# Altium footprint library Switcher.PcbLib: 128 footprints (part 1 of 9)
Each footprint in its own frame and in the unit in brackets; x right, y up, seen from the top. Pads: shape width x height; smd on the part's side, far side on the other; paste and mask are expansions set on the pad; w line width, h text height; cw(c..) or ccw(c..) is an arc to the next point about the centre after c.
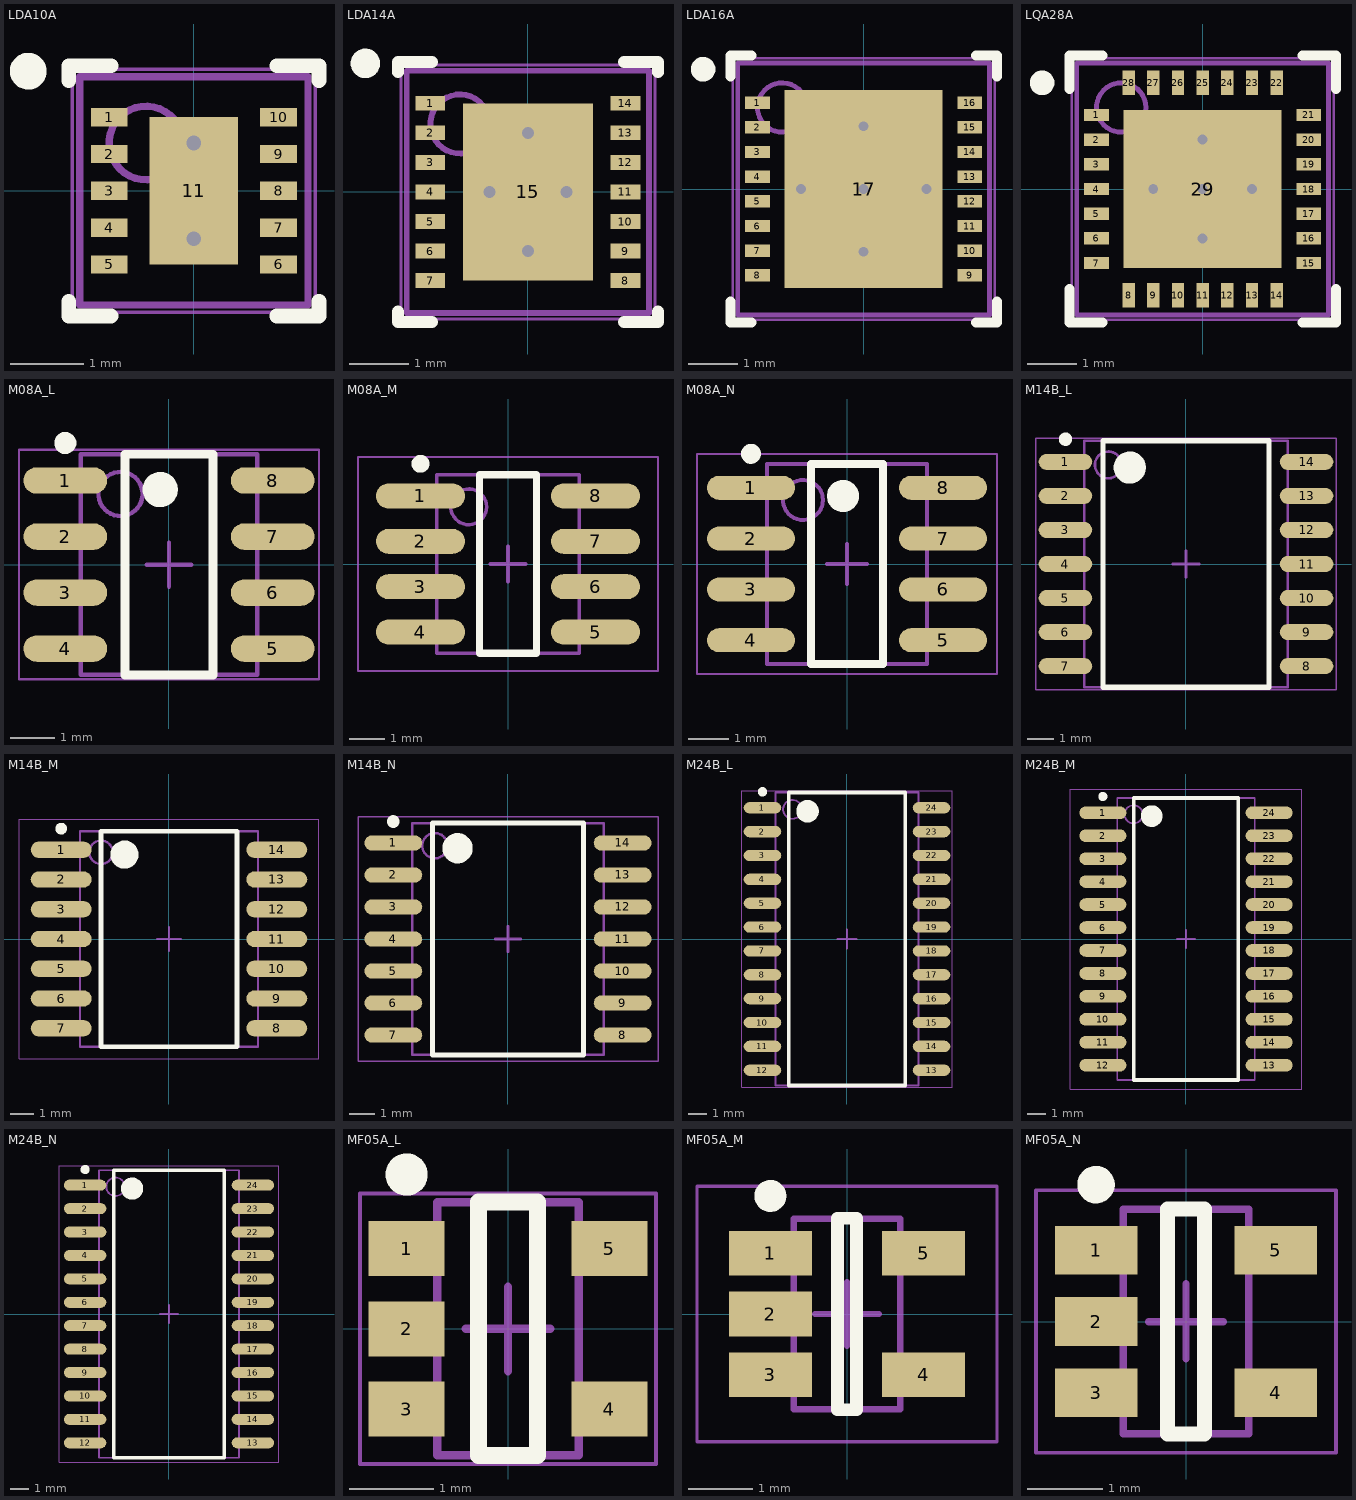
[diagram p0: the footprints below, top view; thin cyan lines are the x and y axes]

## LDA10A [mm] "PSON, 10-Leads, Body 3x3mm, Pitch 0.5mm, NSC Recommended"
height 0.8
pads (11):
  rect 0.5x0.25 smd paste-0.125 mask+0.051: 1(-1.15,1) 2(-1.15,0.5) 3(-1.15,0) 4(-1.15,-0.5) 5(-1.15,-1) 6(1.15,-1) 7(1.15,-0.5) 8(1.15,0) 9(1.15,0.5) 10(1.15,1)
  rect 1.2x2 smd paste-0.6 mask+0.051: 11(0,0)
via 0,0.65 diameter 0.5 hole 0.2
via 0,-0.65 diameter 0.5 hole 0.2
Top Overlay:
  circle w0.25: c-2.25,1.625 r0.125
  lines w0.2: -1.7,-1.5 -1.7,-1.7 -1.125,-1.7 ; -1.7,1.5 -1.7,1.7 -1.125,1.7 ; 1.125,-1.7 1.7,-1.7 1.7,-1.5 ; 1.125,1.7 1.7,1.7 1.7,1.5
Top Paste:
  rectangle: -0.57,-0.95 0.57,0.95
  rectangle: -1.5,0.875 -1,1.125
  rectangle: -1.5,0.375 -1,0.625
  rectangle: -1.5,-0.125 -1,0.125
  rectangle: -1.5,-0.625 -1,-0.375
  rectangle: -1.5,-1.125 -1,-0.875
  region: 1.5,1.125 1,1.125 1,0.875 1.5,0.875
  region: 1.5,0.625 1,0.625 1,0.375 1.5,0.375
  region: 1.5,0.125 1,0.125 1,-0.125 1.5,-0.125
  region: 1.5,-0.375 1,-0.375 1,-0.625 1.5,-0.625
  region: 1.5,-0.875 1,-0.875 1,-1.125 1.5,-1.125
Mechanical 13:
  circle w0.1: c-0.65,0.65 r0.5
  lines w0.1: -1.55,-1.55 -1.55,1.55 1.55,1.55 1.55,-1.55 -1.55,-1.55
Mechanical 15:
  lines w0.05: -1.65,-1.65 -1.65,1.65 1.65,1.65 1.65,-1.65 -1.65,-1.65
  lines w0.1: -0.5,0 0.5,0 ; 0,-0.5 0,0.5
3D body: height 0.8, standoff 0, extent -1.55,-1.55 1.55,1.55

## LDA14A [mm] "PSON, 14-Leads, Body 4x4mm, Pitch 0.5mm, NSC Recommended"
height 0.8
pads (15):
  rect 0.5x0.25 smd paste-0.125 mask+0.051: 1(-1.65,1.5) 2(-1.65,1) 3(-1.65,0.5) 4(-1.65,0) 5(-1.65,-0.5) 6(-1.65,-1) 7(-1.65,-1.5) 8(1.65,-1.5) 9(1.65,-1) 10(1.65,-0.5) 11(1.65,0) 12(1.65,0.5) 13(1.65,1) 14(1.65,1.5)
  rect 2.2x3 smd paste-1.3 mask+0.051: 15(0,0)
via 0.65,0 diameter 0.5 hole 0.2
via -0.65,0 diameter 0.5 hole 0.2
via 0,-1 diameter 0.5 hole 0.2
via 0,1 diameter 0.5 hole 0.2
Top Overlay:
  circle w0.25: c-2.75,2.175 r0.125
  lines w0.2: -2.2,-2.025 -2.2,-2.2 -1.625,-2.2 ; -2.2,2.025 -2.2,2.2 -1.625,2.2 ; 1.625,-2.2 2.2,-2.2 2.2,-2.025 ; 1.625,2.2 2.2,2.2 2.2,2.025
Top Paste:
  region: -1.5,1.625 -2,1.625 -2,1.375 -1.5,1.375
  region: -1.5,1.125 -2,1.125 -2,0.875 -1.5,0.875
  region: -1.5,0.625 -2,0.625 -2,0.375 -1.5,0.375
  region: -1.5,0.125 -2,0.125 -2,-0.125 -1.5,-0.125
  region: -1.5,-0.375 -2,-0.375 -2,-0.625 -1.5,-0.625
  region: -1.5,-0.875 -2,-0.875 -2,-1.125 -1.5,-1.125
  region: -1.5,-1.375 -2,-1.375 -2,-1.625 -1.5,-1.625
  rectangle: 1.5,-1.625 2,-1.375
  rectangle: 1.5,-1.125 2,-0.875
  rectangle: 1.5,-0.625 2,-0.375
  rectangle: 1.5,-0.125 2,0.125
  rectangle: 1.5,0.375 2,0.625
  rectangle: 1.5,0.875 2,1.125
  rectangle: 1.5,1.375 2,1.625
  region: 1,1.4 0.1,1.4 0.1,0.1 1,0.1
  region: 1,-0.1 0.1,-0.1 0.1,-1.4 1,-1.4
  rectangle: -1,-1.4 -0.1,-0.1
  rectangle: -1,0.1 -0.1,1.4
Mechanical 13:
  circle w0.1: c-1.15,1.15 r0.5
  lines w0.1: -2.05,-2.05 -2.05,2.05 2.05,2.05 2.05,-2.05 -2.05,-2.05
Mechanical 15:
  lines w0.05: -2.15,-2.15 2.15,-2.15 2.15,2.15 -2.15,2.15 -2.15,-2.15
  lines w0.1: -0.5,0 0.5,0 ; 0,-0.5 0,0.5
3D body: height 0.8, standoff 0, extent -2.049,-2.049 2.049,2.049

## LDA16A [mm] "PSON, 16-Leads, Body 5x5 mm, Pitch 0.5mm, NSC Recommended"
height 0.8
pads (17):
  rect 0.5x0.25 smd paste-0.125 mask+0.051: 1(-2.15,1.75) 2(-2.15,1.25) 3(-2.15,0.75) 4(-2.15,0.25) 5(-2.15,-0.25) 6(-2.15,-0.75) 7(-2.15,-1.25) 8(-2.15,-1.75) 9(2.15,-1.75) 10(2.15,-1.25) 11(2.15,-0.75) 12(2.15,-0.25) 13(2.15,0.25) 14(2.15,0.75) 15(2.15,1.25) 16(2.15,1.75)
  rect 3.2x4 smd paste-1.6 mask+0.051: 17(0,0)
via -1.27,0 diameter 0.5 hole 0.2
via 0,-1.27 diameter 0.5 hole 0.2
via 0,0 diameter 0.5 hole 0.2
via 0,1.27 diameter 0.5 hole 0.2
via 1.27,0 diameter 0.5 hole 0.2
Top Overlay:
  circle w0.25: c-3.25,2.425 r0.125
  lines w0.2: -2.7,-2.275 -2.7,-2.7 -2.275,-2.7 ; -2.7,2.275 -2.7,2.7 -2.275,2.7 ; 2.275,-2.7 2.7,-2.7 2.7,-2.275 ; 2.275,2.7 2.7,2.7 2.7,2.275
Top Paste:
  rectangle: 0.1,0.1 1.5,2
  region: -0.1,2 -1.5,2 -1.5,0.1 -0.1,0.1
  region: -0.1,-0.1 -1.5,-0.1 -1.5,-2 -0.1,-2
  rectangle: 0.1,-2 1.5,-0.1
  rectangle: -2.5,1.625 -2,1.875
  rectangle: -2.5,1.125 -2,1.375
  rectangle: -2.5,0.625 -2,0.875
  rectangle: -2.5,0.125 -2,0.375
  rectangle: -2.5,-0.875 -2,-0.625
  rectangle: -2.5,-1.375 -2,-1.125
  rectangle: -2.5,-1.875 -2,-1.625
  rectangle: -2.5,-0.375 -2,-0.125
  region: 2.5,-0.125 2,-0.125 2,-0.375 2.5,-0.375
  region: 2.5,-1.625 2,-1.625 2,-1.875 2.5,-1.875
  region: 2.5,-1.125 2,-1.125 2,-1.375 2.5,-1.375
  region: 2.5,-0.625 2,-0.625 2,-0.875 2.5,-0.875
  region: 2.5,0.375 2,0.375 2,0.125 2.5,0.125
  region: 2.5,0.875 2,0.875 2,0.625 2.5,0.625
  region: 2.5,1.375 2,1.375 2,1.125 2.5,1.125
  region: 2.5,1.875 2,1.875 2,1.625 2.5,1.625
Mechanical 13:
  circle w0.1: c-1.65,1.65 r0.5
  lines w0.1: -2.55,-2.55 -2.55,2.55 2.55,2.55 2.55,-2.55 -2.55,-2.55
Mechanical 15:
  lines w0.05: -2.65,-2.65 2.65,-2.65 2.65,2.65 -2.65,2.65 -2.65,-2.65
  lines w0.1: -0.5,0 0.5,0 ; 0,-0.5 0,0.5
3D body: height 0.8, standoff 0, extent -2.55,-2.55 2.55,2.55

## LQA28A [mm] "PQFN, 28-Leads, Body 5x5mm, Pitch 0.5mm, NSC Recommended"
height 0.8
pads (29):
  rect 0.5x0.25 smd paste-0.125 mask+0.051: 1(-2.15,1.5) 2(-2.15,1) 3(-2.15,0.5) 4(-2.15,0) 5(-2.15,-0.5) 6(-2.15,-1) 7(-2.15,-1.5) 15(2.15,-1.5) 16(2.15,-1) 17(2.15,-0.5) 18(2.15,0) 19(2.15,0.5) 20(2.15,1) 21(2.15,1.5)
  rect 0.25x0.5 smd paste-0.125 mask+0.051: 8(-1.5,-2.15) 9(-1,-2.15) 10(-0.5,-2.15) 11(0,-2.15) 12(0.5,-2.15) 13(1,-2.15) 14(1.5,-2.15) 22(1.5,2.15) 23(1,2.15) 24(0.5,2.15) 25(0,2.15) 26(-0.5,2.15) 27(-1,2.15) 28(-1.5,2.15)
  rect 3.2x3.2 smd paste-1.6 mask+0.051: 29(0,0)
via 0,-1 diameter 0.5 hole 0.2
via 1,0 diameter 0.5 hole 0.2
via 0,0 diameter 0.5 hole 0.2
via -1,0 diameter 0.5 hole 0.2
via 0,1 diameter 0.5 hole 0.2
Top Overlay:
  circle w0.25: c-3.25,2.15 r0.125
  lines w0.2: -2.7,-2.025 -2.7,-2.7 -2.025,-2.7 ; -2.7,2.025 -2.7,2.7 -2.025,2.7 ; 2.025,-2.7 2.7,-2.7 2.7,-2.025 ; 2.025,2.7 2.7,2.7 2.7,2.025
Top Paste:
  rectangle: 0.15,-1.5 1.5,-0.15
  region: -0.15,-0.15 -1.5,-0.15 -1.5,-1.5 -0.15,-1.5
  region: -0.15,1.5 -1.5,1.5 -1.5,0.15 -0.15,0.15
  rectangle: 0.15,0.15 1.5,1.5
  region: 1.625,-2.5 1.625,-2 1.375,-2 1.375,-2.5
  region: 1.125,-2.5 1.125,-2 0.875,-2 0.875,-2.5
  region: 0.625,-2.5 0.625,-2 0.375,-2 0.375,-2.5
  region: 0.125,-2.5 0.125,-2 -0.125,-2 -0.125,-2.5
  region: -0.375,-2.5 -0.375,-2 -0.625,-2 -0.625,-2.5
  region: -0.875,-2.5 -0.875,-2 -1.125,-2 -1.125,-2.5
  region: -1.375,-2.5 -1.375,-2 -1.625,-2 -1.625,-2.5
  region: -1.625,2.5 -1.625,2 -1.375,2 -1.375,2.5
  region: -1.125,2.5 -1.125,2 -0.875,2 -0.875,2.5
  region: -0.625,2.5 -0.625,2 -0.375,2 -0.375,2.5
  region: -0.125,2.5 -0.125,2 0.125,2 0.125,2.5
  region: 0.375,2.5 0.375,2 0.625,2 0.625,2.5
  region: 0.875,2.5 0.875,2 1.125,2 1.125,2.5
  region: 1.375,2.5 1.375,2 1.625,2 1.625,2.5
  region: 2.5,1.625 2,1.625 2,1.375 2.5,1.375
  region: 2.5,1.125 2,1.125 2,0.875 2.5,0.875
  region: 2.5,0.625 2,0.625 2,0.375 2.5,0.375
  region: 2.5,0.125 2,0.125 2,-0.125 2.5,-0.125
  region: 2.5,-0.375 2,-0.375 2,-0.625 2.5,-0.625
  region: 2.5,-0.875 2,-0.875 2,-1.125 2.5,-1.125
  region: 2.5,-1.375 2,-1.375 2,-1.625 2.5,-1.625
  rectangle: -2.5,-1.625 -2,-1.375
  rectangle: -2.5,-1.125 -2,-0.875
  rectangle: -2.5,-0.625 -2,-0.375
  rectangle: -2.5,-0.125 -2,0.125
  rectangle: -2.5,0.375 -2,0.625
  rectangle: -2.5,0.875 -2,1.125
  rectangle: -2.5,1.375 -2,1.625
Mechanical 13:
  circle w0.1: c-1.65,1.65 r0.5
  lines w0.1: -2.55,-2.55 2.55,-2.55 2.55,2.55 -2.55,2.55 -2.55,-2.55
Mechanical 15:
  lines w0.05: -2.65,-2.65 2.65,-2.65 2.65,2.65 -2.65,2.65 -2.65,-2.65
  lines w0.1: -0.5,0 0.5,0 ; 0,-0.5 0,0.5
3D body: height 0.8, standoff 0, extent -2.55,-2.55 2.55,2.55

## M08A_L [mm] "SOIC, 8-Leads, Body 4.9x3.9mm, Pitch 1.27mm, IPC High Density"
height 1.75
pads (8):
  oval 1.9x0.6 smd: 1(-2.35,1.905) 2(-2.35,0.635) 3(-2.35,-0.635) 4(-2.35,-1.905) 5(2.35,-1.905) 6(2.35,-0.635) 7(2.35,0.635) 8(2.35,1.905)
Top Overlay:
  circle w0.25: c-2.35,2.755 r0.125
  circle w0.4: c-0.2,1.7 r0.2
  lines w0.2: -1,-2.5 -1,2.5 1,2.5 1,-2.5 -1,-2.5
Mechanical 13:
  circle w0.1: c-1.1,1.6 r0.5
  lines w0.1: -2,-2.5 -2,2.5 2,2.5 2,-2.5 -2,-2.5
Mechanical 15:
  lines w0.05: -3.4,-2.6 -3.4,2.6 3.4,2.6 3.4,-2.6 -3.4,-2.6
  lines w0.1: -0.5,0 0.5,0 ; 0,-0.5 0,0.5
3D body: height 1.75, standoff 0.1, extent -2,-2.5 2,2.5

## M08A_M [mm] "SOIC, 8-Leads, Body 4.9x3.9mm, Pitch 1.27mm, IPC Low Density"
height 1.75
pads (8):
  oval 2.5x0.7 smd: 1(-2.45,1.905) 2(-2.45,0.635) 3(-2.45,-0.635) 4(-2.45,-1.905) 5(2.45,-1.905) 6(2.45,-0.635) 7(2.45,0.635) 8(2.45,1.905)
Top Overlay:
  circle w0.25: c-2.45,2.805 r0.125
  lines w0.2: -0.8,-2.5 0.8,-2.5 0.8,2.5 -0.8,2.5 -0.8,-2.5
Mechanical 13:
  circle w0.1: c-1.1,1.6 r0.5
  lines w0.1: -2,-2.5 2,-2.5 2,2.5 -2,2.5 -2,-2.5
Mechanical 15:
  lines w0.05: -4.2,-3 4.2,-3 4.2,3 -4.2,3 -4.2,-3
  lines w0.1: -0.5,0 0.5,0 ; 0,-0.5 0,0.5
3D body: height 1.75, standoff 0.1, extent -2,-2.5 2,2.5

## M08A_N [mm] "SOIC, 8-Leads, Body 4.9x3.9mm, Pitch 1.27mm, IPC Medium Density"
height 1.75
pads (8):
  oval 2.2x0.6 smd: 1(-2.4,1.905) 2(-2.4,0.635) 3(-2.4,-0.635) 4(-2.4,-1.905) 5(2.4,-1.905) 6(2.4,-0.635) 7(2.4,0.635) 8(2.4,1.905)
Top Overlay:
  circle w0.25: c-2.4,2.755 r0.125
  circle w0.4: c-0.1,1.7 r0.2
  lines w0.2: -0.9,-2.5 -0.9,2.5 0.9,2.5 0.9,-2.5 -0.9,-2.5
Mechanical 13:
  circle w0.1: c-1.1,1.6 r0.5
  lines w0.1: -2,-2.5 -2,2.5 2,2.5 2,-2.5 -2,-2.5
Mechanical 15:
  lines w0.05: -3.75,-2.75 -3.75,2.75 3.75,2.75 3.75,-2.75 -3.75,-2.75
  lines w0.1: -0.5,0 0.5,0 ; 0,-0.5 0,0.5
3D body: height 1.75, standoff 0.1, extent -2,-2.5 2,2.5

## M14B_L [mm] "SOIC, 14-Leads, Body 9x7.5mm, Pitch 1.27mm, IPC High Density"
height 2.65
pads (14):
  oval 2x0.6 smd: 1(-4.5,3.81) 2(-4.5,2.54) 3(-4.5,1.27) 4(-4.5,0) 5(-4.5,-1.27) 6(-4.5,-2.54) 7(-4.5,-3.81) 8(4.5,-3.81) 9(4.5,-2.54) 10(4.5,-1.27) 11(4.5,0) 12(4.5,1.27) 13(4.5,2.54) 14(4.5,3.81)
Top Overlay:
  circle w0.6: c-2.1,3.6 r0.3
  circle w0.25: c-4.5,4.66 r0.125
  lines w0.2: -3.1,-4.6 3.1,-4.6 3.1,4.6 -3.1,4.6 -3.1,-4.6
Mechanical 13:
  circle w0.1: c-2.9,3.7 r0.5
  lines w0.1: -3.8,-4.6 3.8,-4.6 3.8,4.6 -3.8,4.6 -3.8,-4.6
Mechanical 15:
  lines w0.05: -5.6,-4.7 5.6,-4.7 5.6,4.7 -5.6,4.7 -5.6,-4.7
  lines w0.1: -0.5,0 0.5,0 ; 0,-0.5 0,0.5
3D body: height 2.65, standoff 0.1, extent -3.8,-4.6 3.8,4.6

## M14B_M [mm] "SOIC, 14-Leads, Body 9x7.5mm, Pitch 1.27mm, IPC Low Density"
height 2.65
pads (14):
  oval 2.6x0.7 smd: 1(-4.6,3.81) 2(-4.6,2.54) 3(-4.6,1.27) 4(-4.6,0) 5(-4.6,-1.27) 6(-4.6,-2.54) 7(-4.6,-3.81) 8(4.6,-3.81) 9(4.6,-2.54) 10(4.6,-1.27) 11(4.6,0) 12(4.6,1.27) 13(4.6,2.54) 14(4.6,3.81)
Top Overlay:
  circle w0.25: c-4.6,4.71 r0.125
  circle w0.6: c-1.9,3.6 r0.3
  lines w0.2: -2.9,-4.6 -2.9,4.6 2.9,4.6 2.9,-4.6 -2.9,-4.6
Mechanical 13:
  circle w0.1: c-2.9,3.7 r0.5
  lines w0.1: -3.8,-4.6 -3.8,4.6 3.8,4.6 3.8,-4.6 -3.8,-4.6
Mechanical 15:
  lines w0.05: -6.4,-5.1 -6.4,5.1 6.4,5.1 6.4,-5.1 -6.4,-5.1
  lines w0.1: -0.5,0 0.5,0 ; 0,-0.5 0,0.5
3D body: height 2.65, standoff 0.1, extent -3.8,-4.6 3.8,4.6

## M14B_N [mm] "SOIC, 14-Leads, Body 9x7.5mm, Pitch 1.27mm, IPC Medium Density"
height 2.65
pads (14):
  oval 2.3x0.6 smd: 1(-4.55,3.81) 2(-4.55,2.54) 3(-4.55,1.27) 4(-4.55,0) 5(-4.55,-1.27) 6(-4.55,-2.54) 7(-4.55,-3.81) 8(4.55,-3.81) 9(4.55,-2.54) 10(4.55,-1.27) 11(4.55,0) 12(4.55,1.27) 13(4.55,2.54) 14(4.55,3.81)
Top Overlay:
  circle w0.25: c-4.55,4.66 r0.125
  circle w0.6: c-2,3.6 r0.3
  lines w0.2: -3,-4.6 -3,4.6 3,4.6 3,-4.6 -3,-4.6
Mechanical 13:
  circle w0.1: c-2.9,3.7 r0.5
  lines w0.1: -3.8,-4.6 -3.8,4.6 3.8,4.6 3.8,-4.6 -3.8,-4.6
Mechanical 15:
  lines w0.05: -5.95,-4.85 -5.95,4.85 5.95,4.85 5.95,-4.85 -5.95,-4.85
  lines w0.1: -0.5,0 0.5,0 ; 0,-0.5 0,0.5
3D body: height 2.65, standoff 0.1, extent -3.8,-4.6 3.8,4.6

## M24B_L [mm] "SOIC, 24-Leads, Body 15.4x7.5mm, Pitch 1.27mm, IPC High Density"
height 2.65
pads (24):
  oval 2x0.6 smd: 1(-4.5,6.985) 2(-4.5,5.715) 3(-4.5,4.445) 4(-4.5,3.175) 5(-4.5,1.905) 6(-4.5,0.635) 7(-4.5,-0.635) 8(-4.5,-1.905) 9(-4.5,-3.175) 10(-4.5,-4.445) 11(-4.5,-5.715) 12(-4.5,-6.985) 13(4.5,-6.985) 14(4.5,-5.715) 15(4.5,-4.445) 16(4.5,-3.175) 17(4.5,-1.905) 18(4.5,-0.635) 19(4.5,0.635) 20(4.5,1.905) 21(4.5,3.175) 22(4.5,4.445) 23(4.5,5.715) 24(4.5,6.985)
Top Overlay:
  circle w0.25: c-4.5,7.835 r0.125
  circle w0.6: c-2.1,6.8 r0.3
  lines w0.2: -3.1,-7.8 -3.1,7.8 3.1,7.8 3.1,-7.8 -3.1,-7.8
Mechanical 13:
  circle w0.1: c-2.9,6.9 r0.5
  lines w0.1: -3.8,-7.8 -3.8,7.8 3.8,7.8 3.8,-7.8 -3.8,-7.8
Mechanical 15:
  lines w0.05: -5.6,-7.9 -5.6,7.9 5.6,7.9 5.6,-7.9 -5.6,-7.9
  lines w0.1: -0.5,0 0.5,0 ; 0,-0.5 0,0.5
3D body: height 2.65, standoff 0.1, extent -3.8,-7.8 3.8,7.8

## M24B_M [mm] "SOIC, 24-Leads, Body 15.4x7.5mm, Pitch 1.27mm, IPC Low Density"
height 2.65
pads (24):
  oval 2.6x0.7 smd: 1(-4.6,6.985) 2(-4.6,5.715) 3(-4.6,4.445) 4(-4.6,3.175) 5(-4.6,1.905) 6(-4.6,0.635) 7(-4.6,-0.635) 8(-4.6,-1.905) 9(-4.6,-3.175) 10(-4.6,-4.445) 11(-4.6,-5.715) 12(-4.6,-6.985) 13(4.6,-6.985) 14(4.6,-5.715) 15(4.6,-4.445) 16(4.6,-3.175) 17(4.6,-1.905) 18(4.6,-0.635) 19(4.6,0.635) 20(4.6,1.905) 21(4.6,3.175) 22(4.6,4.445) 23(4.6,5.715) 24(4.6,6.985)
Top Overlay:
  circle w0.25: c-4.6,7.885 r0.125
  circle w0.6: c-1.9,6.8 r0.3
  lines w0.2: -2.9,-7.8 -2.9,7.8 2.9,7.8 2.9,-7.8 -2.9,-7.8
Mechanical 13:
  circle w0.1: c-2.9,6.9 r0.5
  lines w0.1: -3.8,-7.8 -3.8,7.8 3.8,7.8 3.8,-7.8 -3.8,-7.8
Mechanical 15:
  lines w0.05: -6.4,-8.3 -6.4,8.3 6.4,8.3 6.4,-8.3 -6.4,-8.3
  lines w0.1: -0.5,0 0.5,0 ; 0,-0.5 0,0.5
3D body: height 2.65, standoff 0.1, extent -3.8,-7.8 3.8,7.8

## M24B_N [mm] "SOIC, 24-Leads, Body 15.4x7.5mm, Pitch 1.27mm, IPC Medium Density"
height 2.65
pads (24):
  oval 2.3x0.6 smd: 1(-4.55,6.985) 2(-4.55,5.715) 3(-4.55,4.445) 4(-4.55,3.175) 5(-4.55,1.905) 6(-4.55,0.635) 7(-4.55,-0.635) 8(-4.55,-1.905) 9(-4.55,-3.175) 10(-4.55,-4.445) 11(-4.55,-5.715) 12(-4.55,-6.985) 13(4.55,-6.985) 14(4.55,-5.715) 15(4.55,-4.445) 16(4.55,-3.175) 17(4.55,-1.905) 18(4.55,-0.635) 19(4.55,0.635) 20(4.55,1.905) 21(4.55,3.175) 22(4.55,4.445) 23(4.55,5.715) 24(4.55,6.985)
Top Overlay:
  circle w0.25: c-4.55,7.835 r0.125
  circle w0.6: c-2,6.8 r0.3
  lines w0.2: -3,-7.8 -3,7.8 3,7.8 3,-7.8 -3,-7.8
Mechanical 13:
  circle w0.1: c-2.9,6.9 r0.5
  lines w0.1: -3.8,-7.8 -3.8,7.8 3.8,7.8 3.8,-7.8 -3.8,-7.8
Mechanical 15:
  lines w0.05: -5.95,-8.05 -5.95,8.05 5.95,8.05 5.95,-8.05 -5.95,-8.05
  lines w0.1: -0.5,0 0.5,0 ; 0,-0.5 0,0.5
3D body: height 2.65, standoff 0.1, extent -3.8,-7.8 3.8,7.8

## MF05A_L [mm] "SOT23, 5-Leads, Body 2.9x1.6mm, Pitch 0.95mm, Lead Span 2.8mm, IPC High Density"
height 1.19
pads (5):
  rect 0.9x0.65 smd: 1(-1.2,0.95) 2(-1.2,0) 3(-1.2,-0.95) 4(1.2,-0.95) 5(1.2,0.95)
Top Overlay:
  circle w0.25: c-1.2,1.825 r0.125
  lines w0.2: -0.35,-1.5 -0.35,1.5 0.35,1.5 0.35,-1.5 -0.35,-1.5
Mechanical 13:
  lines w0.1: -0.835,-1.495 0.835,-1.495 0.835,1.495 -0.835,1.495 -0.835,-1.495
Mechanical 15:
  lines w0.05: -1.75,-1.6 1.75,-1.6 1.75,1.6 -1.75,1.6 -1.75,-1.6
  lines w0.1: -0.5,0 0.5,0 ; 0,-0.5 0,0.5
3D body: height 1.19, standoff 0.05, extent -0.835,-1.495 0.835,1.495

## MF05A_M [mm] "SOT23, 5-Leads, Body 2.9x1.6mm, Pitch 0.95mm, Lead Span 2.8mm, IPC Low Density"
height 1.19
pads (5):
  rect 1.3x0.7 smd: 1(-1.2,0.95) 2(-1.2,0) 3(-1.2,-0.95) 4(1.2,-0.95) 5(1.2,0.95)
Top Overlay:
  circle w0.25: c-1.2,1.85 r0.125
  lines w0.2: -0.15,-1.5 -0.15,1.5 0.15,1.5 0.15,-1.5 -0.15,-1.5
Mechanical 13:
  lines w0.1: -0.835,-1.495 0.835,-1.495 0.835,1.495 -0.835,1.495 -0.835,-1.495
Mechanical 15:
  lines w0.05: -2.35,-2 2.35,-2 2.35,2 -2.35,2 -2.35,-2
  lines w0.1: -0.5,0 0.5,0 ; 0,-0.5 0,0.5
3D body: height 1.19, standoff 0.05, extent -0.835,-1.495 0.835,1.495

## MF05A_N [mm] "SOT23, 5-Leads, Body 2.9x1.6mm, Pitch 0.95mm, Lead Span 2.8mm, IPC Medium Density"
height 1.19
pads (5):
  rect 1.1x0.65 smd: 1(-1.2,0.95) 2(-1.2,0) 3(-1.2,-0.95) 4(1.2,-0.95) 5(1.2,0.95)
Top Overlay:
  circle w0.25: c-1.2,1.825 r0.125
  lines w0.2: -0.25,-1.5 -0.25,1.5 0.25,1.5 0.25,-1.5 -0.25,-1.5
Mechanical 13:
  lines w0.1: -0.835,-1.495 0.835,-1.495 0.835,1.495 -0.835,1.495 -0.835,-1.495
Mechanical 15:
  lines w0.05: -2,-1.75 2,-1.75 2,1.75 -2,1.75 -2,-1.75
  lines w0.1: -0.5,0 0.5,0 ; 0,-0.5 0,0.5
3D body: height 1.19, standoff 0.05, extent -0.835,-1.495 0.835,1.495